# EAGLE library part STM8S103K3 (library stm8s103k3)
The STM8S103F2/x3 access line 8-bit microcontrollers offer 8 Kbyte Flash program memory, plus integrated true data EEPROM. The STM8S microcontroller family reference manual (RM0016) refers to devices in this family as low-density. They provide the following benefits: performance, robustness, and reduced system cost. Device performance and robustness are ensured by advanced core and peripherals made in a state-of-the art technology, a 16 MHz clock frequency, robust I/Os, independent watchdogs with separate clock source, and a clock security system. The system cost is reduced thanks to an integrated true data EEPROM for up to 300 k write/erase cycles and a high system integration level with internal clock oscillators, watchdog and brown-out reset.
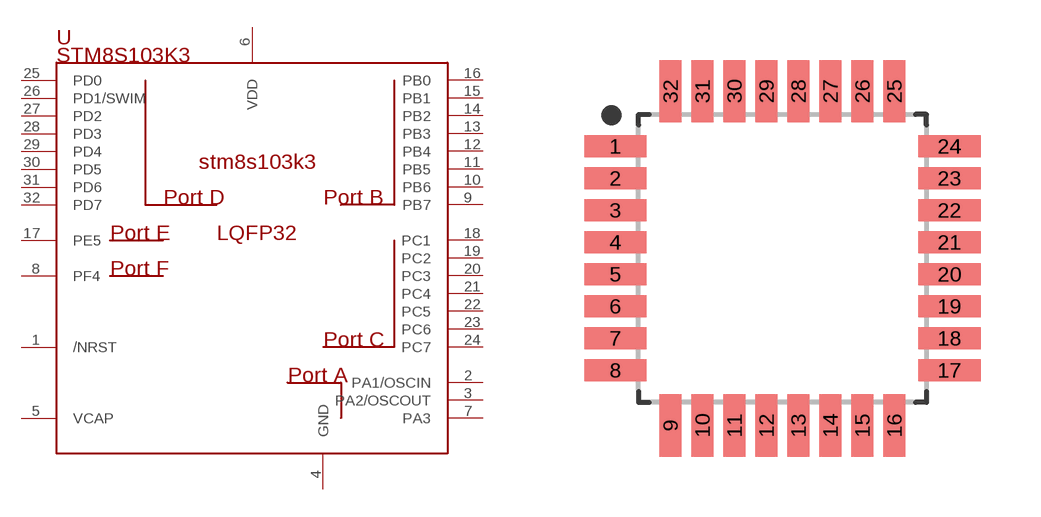
[diagram p0: symbol with the pads of QFP80P900X900X160-32N; footprint QFP80P900X900X160-32N]

Designator prefix -

## STM8S103K3  [QFP80P900X900X160-32N]
1  /NRST
2  PA1/OSCIN
3  PA2/OSCOUT
4  GND
5  VCAP
6  VDD
7  PA3
8  PF4
9  PB7
10  PB6
11  PB5
12  PB4
13  PB3
14  PB2
15  PB1
16  PB0
17  PE5
18  PC1
19  PC2
20  PC3
21  PC4
22  PC5
23  PC6
24  PC7
25  PD0
26  PD1/SWIM
27  PD2
28  PD3
29  PD4
30  PD5
31  PD6
32  PD7

## Footprint QFP80P900X900X160-32N (pad centres in mm)
32-QFP, 0.80 mm pitch, 9.00 mm span, 7.00 X 7.00 X 1.60 mm body 32-pin QFP package with 0.80 mm pitch, 9.00 mm lead span1 X 9.00 mm lead span2 with body size 7.00 X 7.00 X 1.60 mm
smd 1.559 x 0.547: 1 -4.178,2.8; 2 -4.178,2; 3 -4.178,1.2; 4 -4.178,0.4; 5 -4.178,-0.4; 6 -4.178,-1.2; 7 -4.178,-2; 8 -4.178,-2.8; 17 4.178,-2.8; 18 4.178,-2; 19 4.178,-1.2; 20 4.178,-0.4; 21 4.178,0.4; 22 4.178,1.2; 23 4.178,2; 24 4.178,2.8
smd 0.547 x 1.559: 9 -2.8,-4.178; 10 -2,-4.178; 11 -1.2,-4.178; 12 -0.4,-4.178; 13 0.4,-4.178; 14 1.2,-4.178; 15 2,-4.178; 16 2.8,-4.178; 25 2.8,4.178; 26 2,4.178; 27 1.2,4.178; 28 0.4,4.178; 29 -0.4,4.178; 30 -1.2,4.178; 31 -2,4.178; 32 -2.8,4.178